# Altium footprint library 1074.PcbLib: 1 footprints
Each footprint in its own frame and in the unit in brackets; x right, y up, seen from the top. Pads: shape width x height; smd on the part's side, far side on the other; paste and mask are expansions set on the pad; w line width, h text height; cw(c..) or ccw(c..) is an arc to the next point about the centre after c.
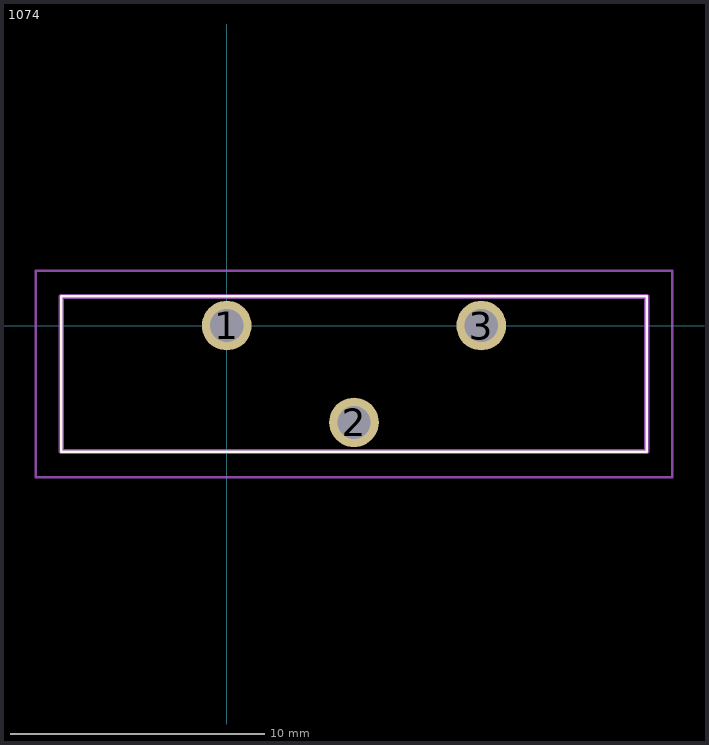
[diagram p0: the footprint, top view; thin cyan lines are the x and y axes]

## 1074 [mm]
pads (3):
  round 1.95 hole 1.3: 1(0,0) 2(5,-3.8) 3(10,0)
Top Overlay:
  lines w0.1: -6.5,-4.95 16.5,-4.95 16.5,1.15 -6.5,1.15 -6.5,-4.95
Mechanical 15:
  lines w0.2: -6.5,-4.95 16.5,-4.95 16.5,1.15 -6.5,1.15 -6.5,-4.95
Mechanical 20:
  lines w0.1: -7.5,-5.95 17.5,-5.95 17.5,2.15 -7.5,2.15 -7.5,-5.95